# Altium footprint library Capacitor.PcbLib: 8 footprints
Each footprint in its own frame and in the unit in brackets; x right, y up, seen from the top. Pads: shape width x height; smd on the part's side, far side on the other; paste and mask are expansions set on the pad; w line width, h text height; cw(c..) or ccw(c..) is an arc to the next point about the centre after c.
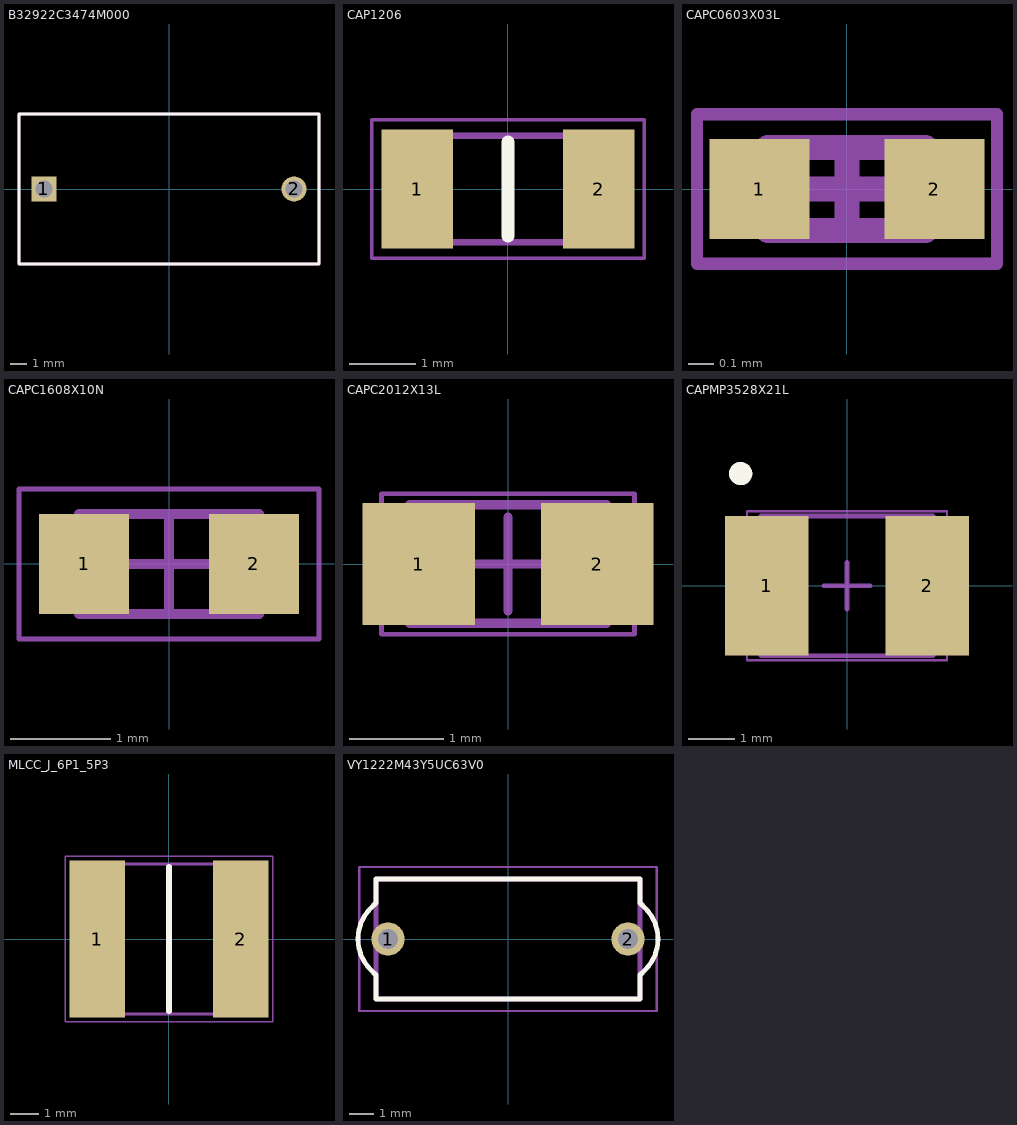
[diagram p0: the footprints below, top view; thin cyan lines are the x and y axes]

## B32922C3474M000 [mm] "0.47 µF Film Capacitor 305V 630V Polypropylene (PP) Radial"
pads (2):
  rect 1.5x1.5 hole 1: 1(-7.5,0)
  round 1.5 hole 1: 2(7.5,0)
Top Overlay:
  lines w0.2: -9,-4.5 9,-4.5 9,4.5 -9,4.5 -9,-4.5
Mechanical 13:
  lines w0.2: -9,-4.5 -9,4.5 9,4.5 9,-4.5 -9,-4.5
Mechanical 15:
  lines w0.05: -9,-4.5 -9,4.5 9,4.5 9,-4.5 -9,-4.5
3D body "B32922C3474M000.stp": height 17.41, standoff -6.09, extent -9,-4.5 9,4.5

## CAP1206 [mm] "MLCC 1206 (3216 Metric)"
pads (2):
  rect 1.07x1.78 smd: 1(-1.36,0) 2(1.36,0)
Top Overlay:
  lines w0.2: 0,-0.7 0,0.7
Mechanical 13:
  lines w0.1: -1.6,-0.8 -1.6,0.8 1.6,0.8 1.6,-0.8 -1.6,-0.8
Mechanical 15:
  lines w0.05: -2.045,-1.04 -2.045,1.04 2.045,1.04 2.045,-1.04 -2.045,-1.04
3D body "HMK316B7105KL-T.stp": height 1.8, standoff 0, extent -1.6,-0.8 1.6,0.8

## CAPC0603X03L [mm] "Chip Capacitor, 2-Leads, Body 0.60x0.30mm, IPC High Density"
height 0.3
pads (2):
  rect 0.4x0.4 smd mask+0.051: 1(-0.35,0) 2(0.35,0)
Mechanical 13:
  lines w0.1: -0.315,-0.165 0.315,-0.165 0.315,0.165 -0.315,0.165 -0.315,-0.165
Mechanical 15:
  lines w0.05: -0.6,-0.3 0.6,-0.3 0.6,0.3 -0.6,0.3 -0.6,-0.3
  lines w0.1: -0.165,0 0.165,0 ; 0,-0.165 0,0.165
3D body "CAPC0603X03L.step": height 0.3, standoff 0, extent -0.315,-0.165 0.315,0.165

## CAPC1608X10N [mm] "Chip Capacitor, 2-Leads, Body 1.60x0.80mm, IPC Medium Density"
height 1
pads (2):
  rect 0.9x1 smd: 1(-0.85,0) 2(0.85,0)
Mechanical 13:
  lines w0.1: -0.9,-0.5 -0.9,0.5 0.9,0.5 0.9,-0.5 -0.9,-0.5
Mechanical 15:
  lines w0.05: -1.5,-0.75 -1.5,0.75 1.5,0.75 1.5,-0.75 -1.5,-0.75
  lines w0.1: -0.5,0 0.5,0 ; 0,-0.5 0,0.5
3D body "CAPC1608X10N.step": height 1, standoff 0, extent -0.9,-0.5 0.9,0.5

## CAPC2012X13L [mm] "Chip Capacitor, 2-Leads, Body 2.00x1.25mm, IPC High Density"
height 1.26
pads (2):
  rect 1.2x1.3 smd: 1(-0.95,0) 2(0.95,0)
Mechanical 13:
  lines w0.1: -1.05,-0.63 -1.05,0.63 1.05,0.63 1.05,-0.63 -1.05,-0.63
Mechanical 15:
  lines w0.05: -1.35,-0.75 -1.35,0.75 1.35,0.75 1.35,-0.75 -1.35,-0.75
  lines w0.1: -0.5,0 0.5,0 ; 0,-0.5 0,0.5
3D body "CAPC2012X13L.step": height 1.26, standoff 0, extent -1.05,-0.63 1.05,0.63

## CAPMP3528X21L [mm] "Molded Capacitor, 2-Leads, Body 3.50x2.80mm, IPC High Density"
height 2.1
pads (2):
  rect 1.8x3 smd: 1(-1.725,0) 2(1.725,0)
Top Overlay:
  circle w0.25: c-2.286,2.413 r0.125
Mechanical 13:
  rectangle: -1.85,-1.5 -1.352,1.5
  lines w0.1: -1.85,-1.5 -1.85,1.5 1.85,1.5 1.85,-1.5 -1.85,-1.5
Mechanical 15:
  lines w0.05: -2.15,-1.6 -2.15,1.6 2.15,1.6 2.15,-1.6 -2.15,-1.6
  lines w0.1: -0.5,0 0.5,0 ; 0,-0.5 0,0.5
3D body "CAPMP3528X21L.step": height 2.1, standoff 0, extent -2.07,-1.5 2.07,1.5

## MLCC_J_6P1_5P3 [mm] "Ceramic Capacitor X7R Stacked SMD, 2 J-Lead"
pads (2):
  rect 1.95x5.52 smd: 1(-2.53,0) 2(2.53,0)
Top Overlay:
  lines w0.2: 0,-2.55 0,2.55
Mechanical 13:
  lines w0.1: -3.05,-2.65 -3.05,2.65 3.05,2.65 3.05,-2.65 -3.05,-2.65
Mechanical 15:
  lines w0.05: -3.655,-2.91 -3.655,2.91 3.655,2.91 3.655,-2.91 -3.655,-2.91
3D body "KRM55WR71J226MH01K.step": height 6.7, standoff 0, extent -3.05,-2.65 3.05,2.65

## VY1222M43Y5UC63V0 [mm] "2200 pF ±20% 760VAC Ceramic Capacitor Y5U (E) Radial, Disc"
pads (2):
  round 1.381 hole 0.85: 1(-5,0) 2(5,0)
Top Overlay:
  lines w0.2: -6.25,0 ccw(c-4.439,0) -5.72,-1.28 -5.5,-1.5 -5.5,-2.5 5.5,-2.5 5.5,-1.5 5.72,-1.28 ccw(c4.439,0) 6.25,0 ccw(c4.439,0) 5.72,1.28 5.5,1.5 5.5,2.5 -5.5,2.5 -5.5,1.5 -5.72,1.28 ccw(c-4.439,0) -6.25,0
Mechanical 13:
  lines w0.2: -5.5,-2.5 5.5,-2.5 5.5,2.5 -5.5,2.5 -5.5,-2.5
Mechanical 15:
  lines w0.1: -6.191,-3 6.191,-3 6.191,3 -6.191,3 -6.191,-3
3D body "VY1222M43Y5UC63V0.stp": height 15.12, standoff -29.86, extent -5.444,-2.5 5.444,2.5